# Altium footprint library POWERSO-20_L15.9-W11.0-P1.27-LS14.2-BL-EP.PcbLib: 1 footprints
Each footprint in its own frame and in the unit in brackets; x right, y up, seen from the top. Pads: shape width x height; smd on the part's side, far side on the other; paste and mask are expansions set on the pad; w line width, h text height; cw(c..) or ccw(c..) is an arc to the next point about the centre after c.
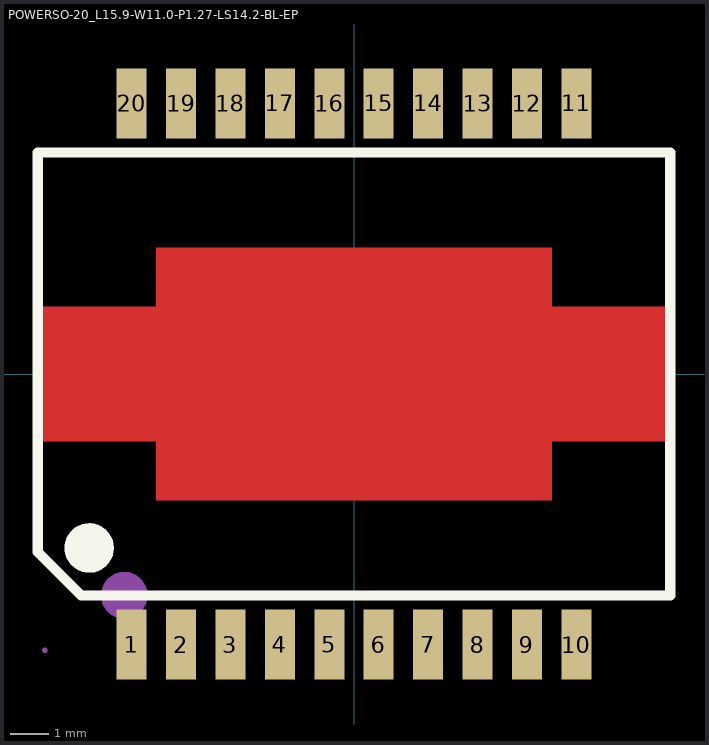
[diagram p0: the footprint, top view; thin cyan lines are the x and y axes]

## POWERSO-20_L15.9-W11.0-P1.27-LS14.2-BL-EP [mm]
pads (20):
  rect 0.772x1.8 smd paste+0 mask+0.051: 1(-5.715,-6.955) 2(-4.445,-6.958) 3(-3.175,-6.958) 4(-1.905,-6.958) 5(-0.635,-6.958) 6(0.635,-6.958) 7(1.905,-6.958) 8(3.175,-6.958) 9(4.445,-6.958) 10(5.715,-6.955) 11(5.715,6.955) 12(4.445,6.958) 13(3.175,6.958) 14(1.905,6.958) 15(0.635,6.958) 16(-0.635,6.958) 17(-1.905,6.958) 18(-3.175,6.958) 19(-4.445,6.958) 20(-5.715,6.955)
Top Layer:
  region: 5.082,-1.727 5.082,-3.249 -5.082,-3.249 -5.082,-3.141 -5.08,-3.141 -5.08,-1.727 -8.178,-1.727 -8.178,1.725 -5.08,1.725 -5.08,3.249 5.079,3.249 5.079,1.725 8.178,1.725 8.178,-1.727
Top Overlay:
  circle w0.258: c-6.807,-4.471 r0.102
  circle w0.258: c-6.807,-4.471 r0.305
  circle w0.258: c-6.807,-4.471 r0.508
  lines w0.258: -8.128,-4.573 -8.128,5.689 8.128,5.689 8.128,-5.69 -7.01,-5.69 -8.128,-4.573
Mechanical 6:
  circle w0.6: c-5.904,-5.689 r0.3
Mechanical 15:
  region: -7.89,-7.101 -7.89,-7.076 -7.925,-7.041 -7.975,-7.041 -8.01,-7.076 -8.01,-7.101 -8.01,-7.125 -7.975,-7.161 -7.925,-7.161 -7.89,-7.125 -7.89,-7.101